# Altium footprint library Crazy_PCB.PcbLib: 155 footprints (part 8 of 10)
Each footprint in its own frame and in the unit in brackets; x right, y up, seen from the top. Pads: shape width x height; smd on the part's side, far side on the other; paste and mask are expansions set on the pad; w line width, h text height; cw(c..) or ccw(c..) is an arc to the next point about the centre after c.
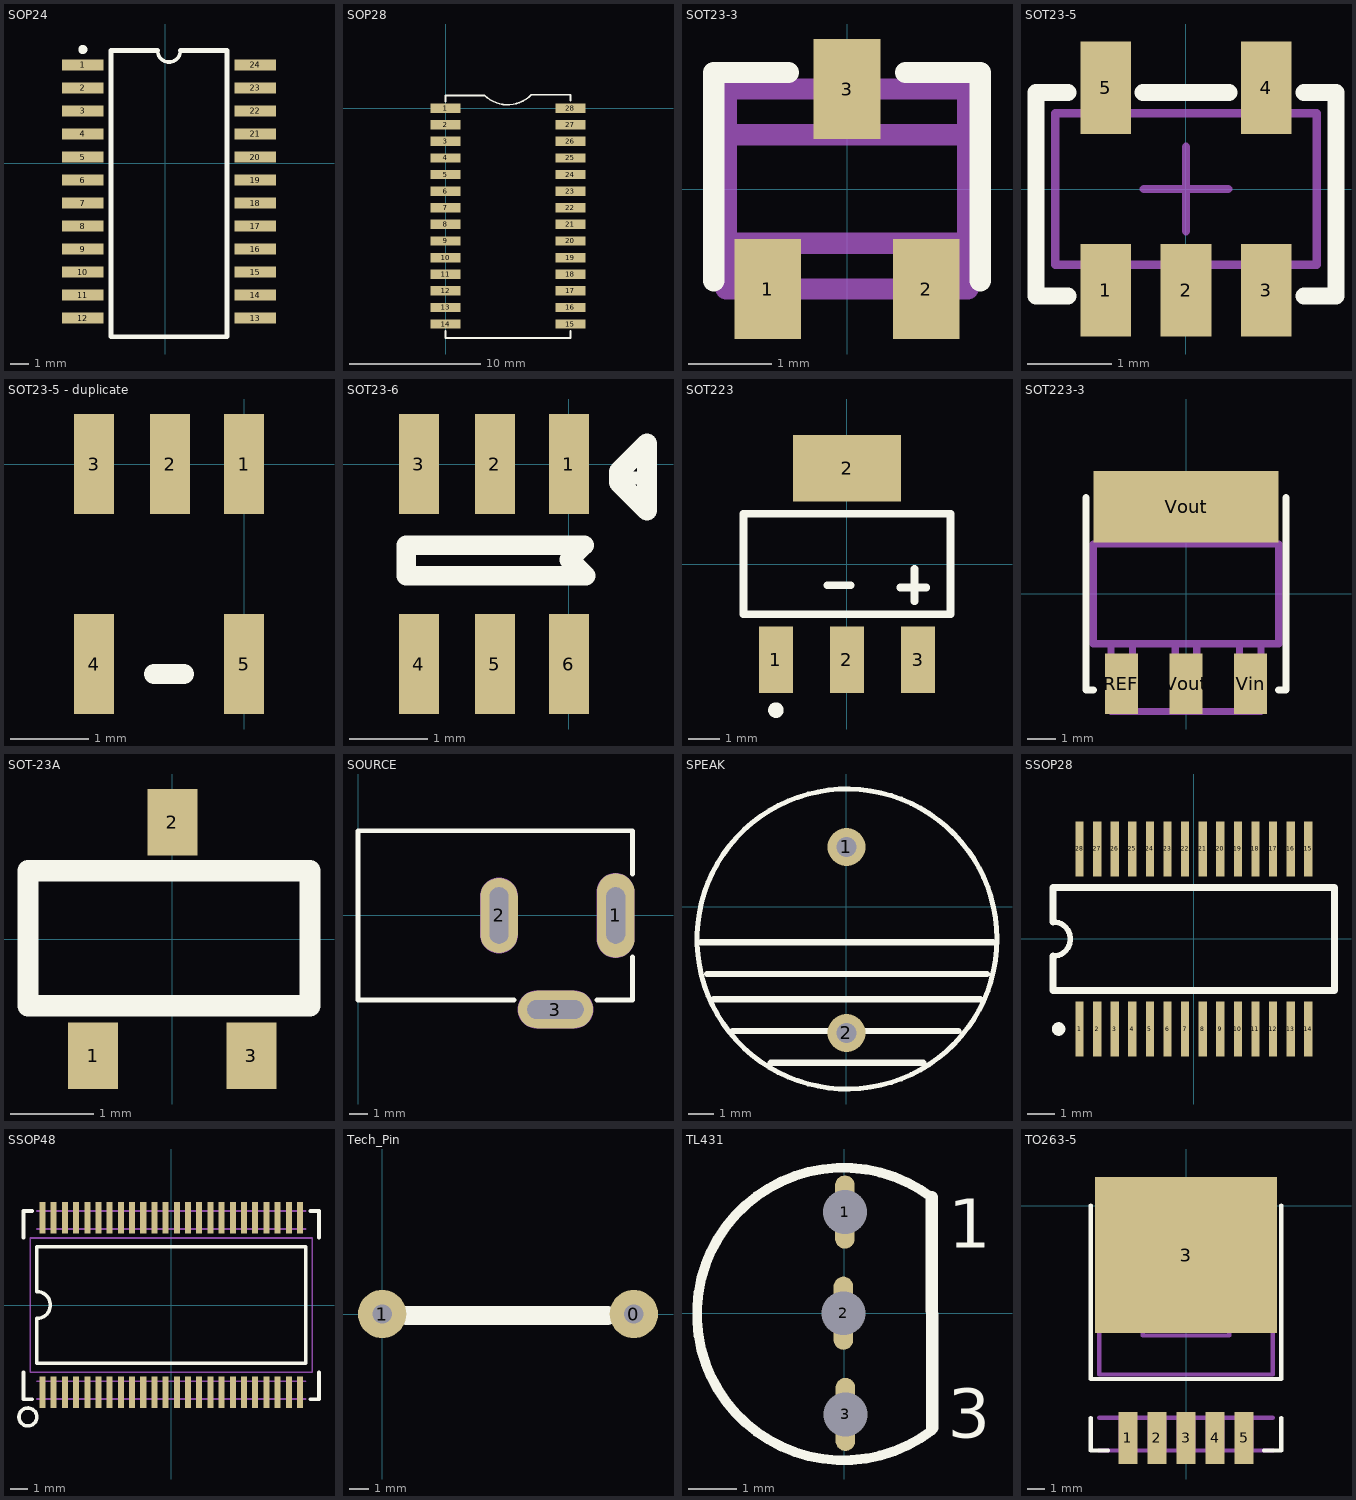
[diagram p7: the footprints below, top view; thin cyan lines are the x and y axes]

## SOP24 [mm]
pads (24):
  rect 2.3x0.6 smd: 1(-4.545,5.414) 2(-4.545,4.144) 3(-4.545,2.874) 4(-4.545,1.604) 5(-4.545,0.334) 6(-4.545,-0.936) 7(-4.545,-2.206) 8(-4.545,-3.476) 9(-4.545,-4.746) 10(-4.545,-6.016) 11(-4.545,-7.286) 12(-4.545,-8.556) 13(4.955,-8.556) 14(4.955,-7.286) 15(4.955,-6.016) 16(4.955,-4.746) 17(4.955,-3.476) 18(4.955,-2.206) 19(4.955,-0.936) 20(4.955,0.334) 21(4.955,1.604) 22(4.955,2.874) 23(4.955,4.144) 24(4.955,5.414)
Top Overlay:
  circle w0.25: c-4.545,6.264 r0.125
  lines w0.2: -0.43,6.209 ccw(c0.205,6.209) 0.84,6.209
  lines w0.254: -0.43,6.209 -2.995,6.209 -2.995,-9.58 3.405,-9.58 3.405,6.209 0.84,6.209
3D body: height 1, standoff 0, extent -2.996,-9.581 3.406,6.21

## SOP28 [mil]
pads (28):
  rect 90x28 smd: 1(0,0) 2(0,-50) 3(0,-100) 4(0,-150) 5(0,-200) 6(0,-250) 7(0,-300) 8(0,-350) 9(0,-400) 10(0,-450) 11(0,-500) 12(0,-550) 13(0,-600) 14(0,-650) 15(375.94,-650) 16(375.94,-600) 17(375.94,-550) 18(375.94,-500) 19(375.94,-450) 20(375.94,-400) 21(375.94,-350) 22(375.94,-300) 23(375.94,-250) 24(375.94,-200) 25(375.94,-150) 26(375.94,-100) 27(375.94,-50) 28(375.94,0)
Top Overlay:
  lines w5: 0,-670 0,-692 376,-692 376,-670 ; 0,20 0,38 118,38 ccw(c187,109) 258,40 376,40 376,22
3D body: height 39.37, standoff 0, extent -49,-694.5 424.94,42.5

## SOT23-3 [mm]
pads (3):
  rect 0.8x1.2 smd: 1(-0.95,-1.2) 2(0.95,-1.2) 3(0,1.2)
Top Overlay:
  lines w0.254: -1.6,-1.1 -1.6,1.4 -0.7,1.4 ; 0.7,1.4 1.6,1.4 1.6,-1.1
Mechanical 1:
  lines w0.254: -1.45,-0.65 1.45,-0.65 ; -1.45,0.65 1.45,0.65 ; -1.15,-1.2 -1.15,-0.65 ; -0.75,-1.2 -0.75,-0.65 ; -0.2,0.65 -0.2,1.2 ; 0.2,0.65 0.2,1.2 ; 0.75,-1.2 0.75,-0.65 ; 1.15,-1.2 1.15,-0.65 ; -1.45,-1.2 1.45,-1.2 1.45,1.2 -1.45,1.2 -1.45,-1.2
3D body: height 1, standoff 0, extent -1.727,-1.227 1.727,1.527

## SOT23-5 [mm]
height 2
pads (5):
  rect 0.6x1.1 smd: 1(-0.95,-1.2) 2(0,-1.2) 3(0.95,-1.2) 4(0.95,1.2) 5(-0.95,1.2)
Top Overlay:
  lines w0.2: -1.397,-1.27 -1.778,-1.27 -1.778,1.143 -1.397,1.143 ; -0.508,1.143 0.508,1.143 ; 1.397,-1.27 1.778,-1.27 1.778,1.143 1.397,1.143
Mechanical 13:
  lines w0.1: -1.55,-0.9 1.55,-0.9 1.55,0.9 -1.55,0.9 -1.55,-0.9
Mechanical 15:
  lines w0.1: -0.5,0 0.5,0 ; 0,-0.5 0,0.5
3D body: height 1.45, standoff 0, extent -1.55,-0.9 1.55,0.9

## SOT23-5 - duplicate [mil]
height 82.68
pads (5):
  rect 20x50 smd: 1(0,0) 2(-37,0) 3(-75,0) 4(-75,-100) 5(0,-100)
Top Overlay:
  lines w10: -45,-105 -30,-105

## SOT23-6 [mil]
height 82.68
pads (6):
  rect 20x50 smd: 1(0,0) 2(-37,0) 3(-75,0) 4(-75,-100) 5(-36.94,-100) 6(0,-100)
Top Overlay:
  rectangle: 25.14,-10.14 39.14,-3.68
  lines w9.84: -81.24,-55.92 8.44,-55.92 0.36,-47.85 7.63,-40.57 -81.24,-40.57 -81.24,-55.92
  lines w10: 25.14,-9.34 25.14,-3.68 39.14,10.32 39.14,-23.34 25.14,-9.34

## SOT223 [mm]
pads (4):
  rect 1.1x2.15 smd: 1(-2.3,-3.1) 2(0,-3.1) 3(2.3,-3.1)
  rect 3.5x2.15 smd: 2(0,3.1)
Top Overlay:
  circle w0.25: c-2.3,-4.725 r0.125
  lines w0.25: -0.627,-0.683 0.123,-0.683 ; 1.723,-0.763 2.563,-0.763 ; 2.183,-1.203 2.183,-0.163
  lines w0.254: -3.35,-1.625 3.35,-1.625 3.35,1.625 -3.35,1.625 -3.35,-1.625
3D body: height 1, standoff 0, extent -3.349,-1.624 3.349,1.624

## SOT223-3 [mil] "3-Lead SOT-223"
pads (4):
  rect 46x85 smd: REF(-90.55,-125.98) Vin(90.55,-125.98) Vout(0,-125.98)
  rect 260x100 smd: Vout(0,122.05)
Top Overlay:
  lines w10: -140,135 -140,-135 -130,-135 ; 130,-135 140,-135 140,135
Mechanical 1:
  lines w10: -105,-165 105,-165 ; -105,-100 -75,-100 ; -105,-70 -105,-135 -75,-135 -75,-70 ; -60,70 -60,135 60,135 60,70 ; -60,100 60,100 ; -60,165 60,165 ; -15,-100 15,-100 ; -15,-70 -15,-135 15,-135 15,-70 ; 75,-100 105,-100 ; 75,-70 75,-135 105,-135 105,-70 ; -130,-70 -130,70 130,70 130,-70 -130,-70

## SOT-23A [mm]
pads (3):
  rect 0.6x0.8 smd: 1(-0.95,-1.4) 2(0,1.4) 3(0.95,-1.4)
Top Overlay:
  lines w0.254: -1.73,-0.8 -1.73,0.82 1.65,0.82 1.65,-0.8 -1.73,-0.8
3D body: height 1, standoff 0, extent -1.857,-0.927 1.777,0.947

## SOURCE [mm] "DC Power Jack, 2.5mm, KLD Series, PCB Mount"
height 1.75
pads (3):
  oval 2x4.5 hole 1 slot 3 at 90 deg: 1(13.7,0)
  oval 2x4 hole 1 slot 3 at 90 deg: 2(7.5,0)
  oval 4x2 hole 1 slot 3 at 0 deg: 3(10.5,-5)
Top Overlay:
  lines w0.254: 8.3,-4.5 0,-4.5 0,4.5 14.6,4.5 14.6,2.2 ; 12.7,-4.5 14.6,-4.5 14.6,-2.2
Mechanical 1:
  lines w1: 7.5,-1 7.5,1 ; 9.5,-5 11.5,-5 ; 13.7,-1.25 13.7,1.25
Mechanical 2:
  lines w2.016: 7.5,-1 7.5,1 ; 9.5,-5 11.5,-5 ; 13.7,-1.25 13.7,1.25
3D body: height 6, standoff 0, extent -0.127,-4.627 14.727,4.627

## SPEAK [mil]
pads (2):
  round 60 hole 31.5: 1(0,94.49) 2(0,-198.43)
Top Overlay:
  circle w7.87: c0.84,-50.42 r236.22
  lines w9.84: -229.16,-55.43 230.84,-55.43 ; -219.16,-105.43 220.84,-105.43 ; -209.16,-145.43 210.84,-145.43 ; -179.16,-195.43 175.84,-195.43 ; -119.16,-245.43 120.84,-245.43

## SSOP28 [mm]
pads (28):
  rect 0.305x2.05 smd: 1(-4.225,-3.325) 2(-3.575,-3.325) 3(-2.925,-3.325) 4(-2.275,-3.325) 5(-1.625,-3.325) 6(-0.975,-3.325) 7(-0.325,-3.325) 8(0.325,-3.325) 9(0.975,-3.325) 10(1.625,-3.325) 11(2.275,-3.325) 12(2.925,-3.325) 13(3.575,-3.325) 14(4.225,-3.325) 15(4.225,3.325) 16(3.575,3.325) 17(2.925,3.325) 18(2.275,3.325) 19(1.625,3.325) 20(0.975,3.325) 21(0.325,3.325) 22(-0.325,3.325) 23(-0.975,3.325) 24(-1.625,3.325) 25(-2.275,3.325) 26(-2.925,3.325) 27(-3.575,3.325) 28(-4.225,3.325)
Top Overlay:
  circle w0.25: c-5,-3.325 r0.125
  lines w0.2: -5.2,-0.633 ccw(c-5.2,0) -5.2,0.633
  lines w0.254: -5.2,-0.633 -5.2,-1.9 5.2,-1.9 5.2,1.9 -5.2,1.9 -5.2,0.633
3D body: height 1, standoff 0, extent -5.201,-1.901 5.2,1.901

## SSOP48 [mil] "48-Lead Shrink Small-Outline Package"
height 110
pads (48):
  rect 13.5x70 smd: 1(-287.5,-195) 2(-262.5,-195) 3(-237.5,-195) 4(-212.5,-195) 5(-187.5,-195) 6(-162.5,-195) 7(-137.5,-195) 8(-112.5,-195) 9(-87.5,-195) 10(-62.5,-195) 11(-37.5,-195) 12(-12.5,-195) 13(12.5,-195) 14(37.5,-195) 15(62.5,-195) 16(87.5,-195) 17(112.5,-195) 18(137.5,-195) 19(162.5,-195) 20(187.5,-195) 21(212.5,-195) 22(237.5,-195) 23(262.5,-195) 24(287.5,-195) 25(287.5,195) 26(262.5,195) 27(237.5,195) 28(212.5,195) 29(187.5,195) 30(162.5,195) 31(137.5,195) 32(112.5,195) 33(87.5,195) 34(62.5,195) 35(37.5,195) 36(12.5,195) 37(-12.5,195) 38(-37.5,195) 39(-62.5,195) 40(-87.5,195) 41(-112.5,195) 42(-137.5,195) 43(-162.5,195) 44(-187.5,195) 45(-212.5,195) 46(-237.5,195) 47(-262.5,195) 48(-287.5,195)
Top Overlay:
  circle w8: c-320,-250 r20
  lines w8: -330,-150 -330,-210 -310,-210 ; -330,150 -330,210 -310,210 ; 310,-210 330,-210 330,-150 ; 310,210 330,210 330,150 ; -300,-130 -300,-30 ccw(c-300,0) -300,30 -300,130 300,130 300,-130 -300,-130
Mechanical 1:
  lines w4: -300,-210 300,-210 ; -300,-170 300,-170 ; -300,170 300,170 ; -300,210 300,210 ; -315,-150 315,-150 315,150 -315,150 -315,-150
3D body: height 39.37, standoff 0, extent -314.98,-149.98 314.98,149.98

## Tech_Pin [mm]
pads (2):
  round 2.5 hole 1: 0(13,0) 1(0,0)
Top Overlay:
  lines w1: 1.27,-0.08 11.64,-0.08

## TL431 [mm] "TO, Flat Index; 3 In-Line, Axial Leads; Body Dia. 4.5mm; Leads 0.51 x 0.48 mm (max)"
height 6.86
pads (3):
  oval 0.4x1.5 hole 0.9: 1(0.01,2.075) 2(-0.02,0) 3(0.02,-2.075)
Top Overlay:
  lines w0.2: 1.79,-2.408 cw(c-0.022,-0.016) 1.79,2.375
  lines w0.254: 1.79,2.375 1.801,-2.345
  text "1" at 2.13,1.345 h1
  text "3" at 2.12,-2.555 h1

## TO263-5 [mil] "5-Lead TO-263 (S), (National TS5B)"
pads (6):
  rect 43x120 smd: 1(-133.86,-536.34) 2(-66.93,-536.34) 3(0,-536.34) 4(66.93,-536.34) 5(133.86,-536.34)
  rect 420x360 smd: 3(0,-114.17)
Top Overlay:
  lines w9.84: -220,-490 -220,-565 -180,-565 ; -220,0 -220,-400 220,-400 220,0 ; 180,-565 220,-565 220,-490
Mechanical 1:
  lines w10: -200,-565 200,-565 ; -200,-490 200,-490 ; -200,-50 -100,-50 -100,-300 100,-300 100,-50 200,-50 ; -150.5,-565 -150.5,-490 ; -117.5,-565 -117.5,-490 ; -83.5,-565 -83.5,-490 ; -50.5,-565 -50.5,-490 ; -16.5,-565 -16.5,-490 ; 16.5,-565 16.5,-490 ; 50.5,-565 50.5,-490 ; 83.5,-565 83.5,-490 ; 117.5,-565 117.5,-490 ; 150.5,-565 150.5,-490 ; -200,-390 200,-390 200,0 -200,0 -200,-390